# EAGLE library part SIM808 (library SimCom)
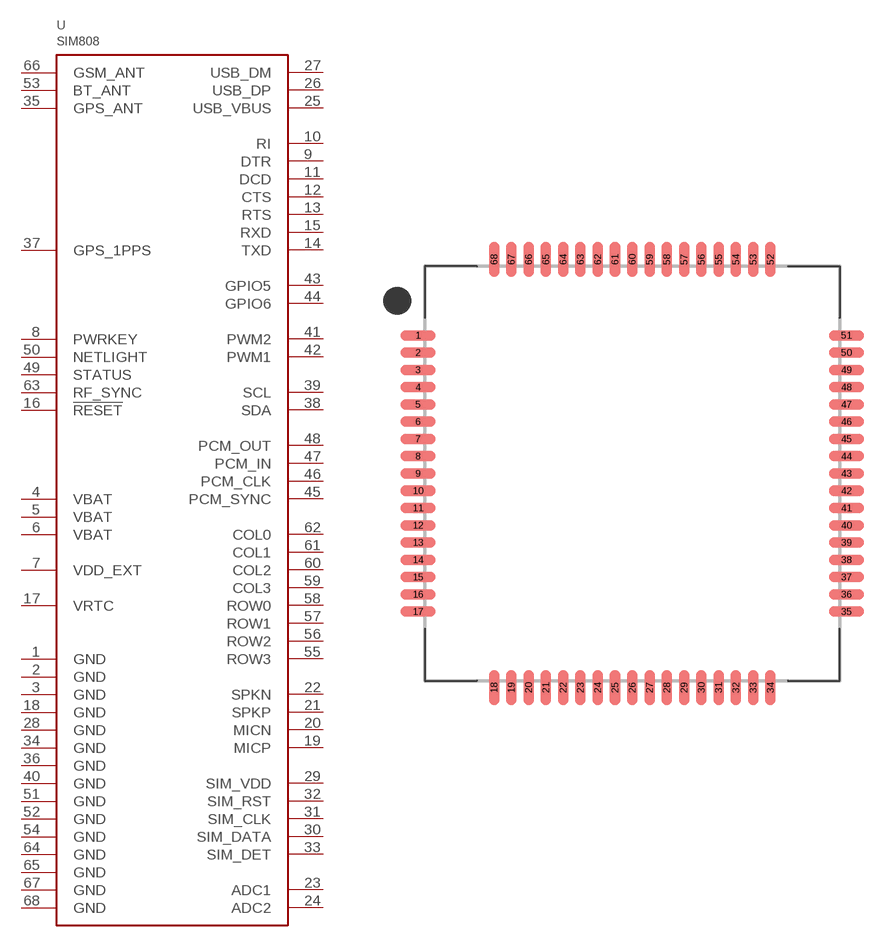
[diagram p1: symbol with the pads of SIM808; footprint SIM808]

Designator prefix U

## SIM808  [SIM808]
1  GND  pwr
2  GND  pwr
3  GND  pwr
4  VBAT  pwr
5  VBAT  pwr
6  VBAT  pwr
7  VDD_EXT
8  PWRKEY
9  DTR
10  RI
11  DCD
12  CTS
13  RTS
14  TXD
15  RXD
16  !RESET
17  VRTC
18  GND  pwr
19  MICP
20  MICN
21  SPKP
22  SPKN
23  ADC1
24  ADC2
25  USB_VBUS
26  USB_DP
27  USB_DM
28  GND  pwr
29  SIM_VDD
30  SIM_DATA
31  SIM_CLK
32  SIM_RST
33  SIM_DET
34  GND  pwr
35  GPS_ANT
36  GND  pwr
37  GPS_1PPS
38  SDA
39  SCL
40  GND  pwr
41  PWM2
42  PWM1
43  GPIO5
44  GPIO6
45  PCM_SYNC
46  PCM_CLK
47  PCM_IN
48  PCM_OUT
49  STATUS
50  NETLIGHT
51  GND  pwr
52  GND  pwr
53  BT_ANT
54  GND  pwr
55  ROW3
56  ROW2
57  ROW1
58  ROW0
59  COL3
60  COL2
61  COL1
62  COL0
63  RF_SYNC
64  GND  pwr
65  GND  pwr
66  GSM_ANT
67  GND  pwr
68  GND  pwr

## Footprint SIM808 (pad centres in mm)
smd 2 x 0.6: 1 -12.4,8; 2 -12.4,7; 3 -12.4,6; 4 -12.4,5; 5 -12.4,4; 6 -12.4,3; 7 -12.4,2; 8 -12.4,1; 9 -12.4,0; 10 -12.4,-1; 11 -12.4,-2; 12 -12.4,-3; 13 -12.4,-4; 14 -12.4,-5; 15 -12.4,-6; 16 -12.4,-7; 17 -12.4,-8; 35 12.4,-8; 36 12.4,-7; 37 12.4,-6; 38 12.4,-5; 39 12.4,-4; 40 12.4,-3; 41 12.4,-2; 42 12.4,-1; 43 12.4,0; 44 12.4,1; 45 12.4,2; 46 12.4,3; 47 12.4,4; 48 12.4,5; 49 12.4,6; 50 12.4,7; 51 12.4,8
smd 0.6 x 2: 18 -8,-12.4; 19 -7,-12.4; 20 -6,-12.4; 21 -5,-12.4; 22 -4,-12.4; 23 -3,-12.4; 24 -2,-12.4; 25 -1,-12.4; 26 0,-12.4; 27 1,-12.4; 28 2,-12.4; 29 3,-12.4; 30 4,-12.4; 31 5,-12.4; 32 6,-12.4; 33 7,-12.4; 34 8,-12.4; 52 8,12.4; 53 7,12.4; 54 6,12.4; 55 5,12.4; 56 4,12.4; 57 3,12.4; 58 2,12.4; 59 1,12.4; 60 0,12.4; 61 -1,12.4; 62 -2,12.4; 63 -3,12.4; 64 -4,12.4; 65 -5,12.4; 66 -6,12.4; 67 -7,12.4; 68 -8,12.4